# Altium footprint library MORNSUN.PcbLib: 18 footprints (part 2 of 2)
Each footprint in its own frame and in the unit in brackets; x right, y up, seen from the top. Pads: shape width x height; smd on the part's side, far side on the other; paste and mask are expansions set on the pad; w line width, h text height; cw(c..) or ccw(c..) is an arc to the next point about the centre after c.
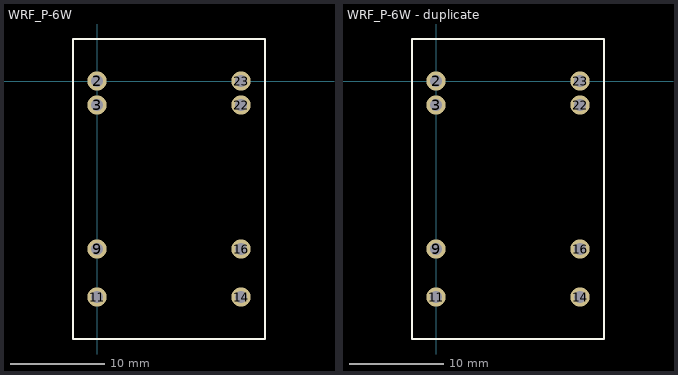
[diagram p1: the footprints below, top view; thin cyan lines are the x and y axes]

## WRF_P-6W [mil]
height 68.9
pads (8):
  round 80 hole 50: 2(0,0) 3(0,-100) 9(0,-700) 11(0,-900) 14(600,-900) 16(600,-700) 22(600,-100) 23(600,0)
Top Overlay:
  lines w10: -100,-1075 700,-1075 700,175 -100,175 -100,-1075

## WRF_P-6W - duplicate [mil]
height 68.9
pads (8):
  round 80 hole 50: 2(0,0) 3(0,-100) 9(0,-700) 11(0,-900) 14(600,-900) 16(600,-700) 22(600,-100) 23(600,0)
Top Overlay:
  lines w10: -100,-1075 -100,175 700,175 700,-1075 -100,-1075